# EAGLE library part AD7303 (library IC)
AD7303 Digital/Analog Converter
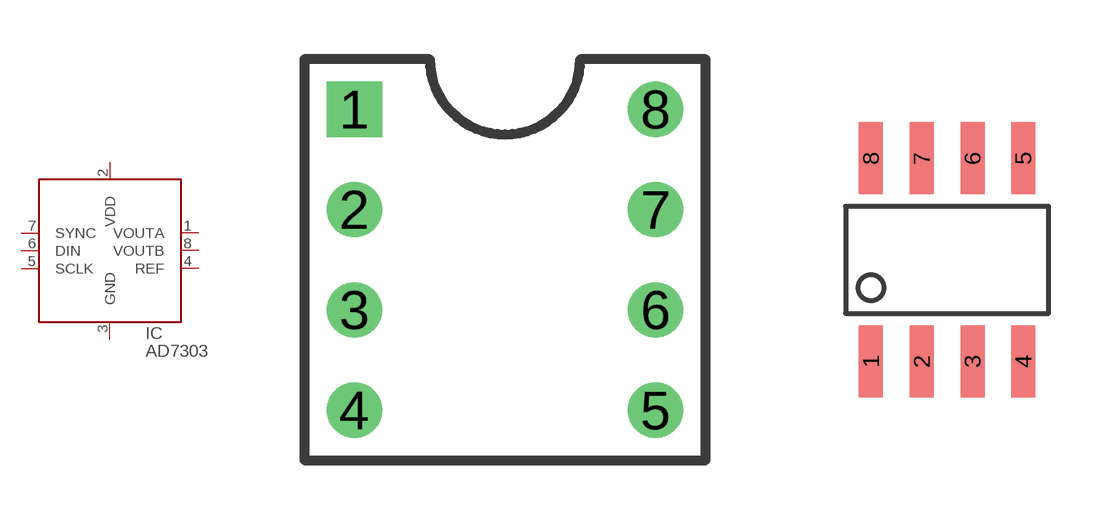
[diagram p3: symbol with the pads of DIP-8C; footprints DIP-8C, SOIC8]

Designator prefix IC

## AD7303N  [DIP-8C]
1  VOUTA
2  VDD  pwr
3  GND  pwr
4  REF
5  SCLK
6  DIN
7  SYNC
8  VOUTB

## AD7303BR  [SOIC8]
Pads as for DIP-8C

## Footprint DIP-8C (pad centres in mm)
drill 0.889 square: 1 -3.81,3.81
drill 0.889 round: 2 -3.81,1.27; 3 -3.81,-1.27; 4 -3.81,-3.81; 5 3.81,-3.81; 6 3.81,-1.27; 7 3.81,1.27; 8 3.81,3.81

## Footprint SOIC8 (pad centres in mm)
8 pin SOIC 150-mil package
smd 0.6 x 1.8: 1 -1.905,-2.54; 2 -0.635,-2.54; 3 0.635,-2.54; 4 1.905,-2.54; 5 1.905,2.54; 6 0.635,2.54; 7 -0.635,2.54; 8 -1.905,2.54